# EAGLE library part NUCLEO_STM32L476RG (library ww_devkit)
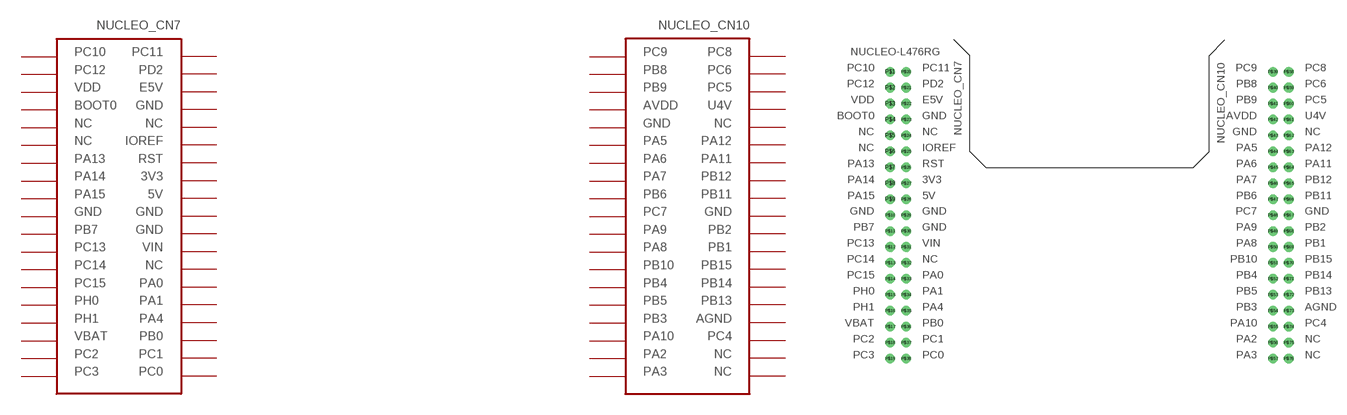
[diagram p0: symbol with the pads of NUCLEO; footprint NUCLEO]

Designator prefix -

## NUCLEO_STM32L476RG  [NUCLEO]
P$1  P$1
P$2  P$2
P$3  P$3
P$4  P$4
P$5  P$5
P$6  P$6
P$7  P$7
P$8  P$8
P$9  P$9
P$10  P$10
P$11  P$11
P$12  P$12
P$13  P$13
P$14  P$14
P$15  P$15
P$16  P$16
P$17  P$17
P$18  P$18
P$19  P$19
P$20  P$20
P$21  P$21
P$22  P$22
P$23  P$23
P$24  P$24
P$25  P$25
P$26  P$26
P$27  P$27
P$28  P$28
P$29  P$29
P$30  P$30
P$31  P$31
P$32  P$32
P$33  P$33
P$34  P$34
P$35  P$35
P$36  P$36
P$37  P$37
P$38  P$38
P$39  P$39
P$40  P$40
P$41  P$41
P$42  P$42
P$43  P$43
P$44  P$44
P$45  P$45
P$46  P$46
P$47  P$47
P$48  P$48
P$49  P$49
P$50  P$50
P$51  P$51
P$52  P$52
P$53  P$53
P$54  P$54
P$55  P$55
P$56  P$56
P$57  P$57
P$58  P$58
P$59  P$59
P$60  P$60
P$61  P$61
P$62  P$62
P$63  P$63
P$64  P$64
P$65  P$65
P$66  P$66
P$67  P$67
P$68  P$68
P$69  P$69
P$70  P$70
P$71  P$71
P$72  P$72
P$73  P$73
P$74  P$74
P$75  P$75
P$76  P$76

## Footprint NUCLEO (pad centres in mm)
drill 1.016: P$1 0,0; P$2 0,-2.54; P$3 0,-5.08; P$4 0,-7.62; P$5 0,-10.16; P$6 0,-12.7; P$7 0,-15.24; P$8 0,-17.78; P$9 0,-20.32; P$10 0,-22.86; P$11 0,-25.4; P$12 0,-27.94; P$13 0,-30.48; P$14 0,-33.02; P$15 0,-35.56; P$16 0,-38.1; P$17 0,-40.64; P$18 0,-43.18; P$19 0,-45.72; P$20 2.54,0; P$21 2.54,-2.54; P$22 2.54,-5.08; P$23 2.54,-7.62; P$24 2.54,-10.16; P$25 2.54,-12.7; P$26 2.54,-15.24; P$27 2.54,-17.78; P$28 2.54,-20.32; P$29 2.54,-22.86; P$30 2.54,-25.4; P$31 2.54,-27.94; P$32 2.54,-30.48; P$33 2.54,-33.02; P$34 2.54,-35.56; P$35 2.54,-38.1; P$36 2.54,-40.64; P$37 2.54,-43.18; P$38 2.54,-45.72; P$39 60.96,0; P$40 60.96,-2.54; P$41 60.96,-5.08; P$42 60.96,-7.62; P$43 60.96,-10.16; P$44 60.96,-12.7; P$45 60.96,-15.24; P$46 60.96,-17.78; P$47 60.96,-20.32; P$48 60.96,-22.86; P$49 60.96,-25.4; P$50 60.96,-27.94; P$51 60.96,-30.48; P$52 60.96,-33.02; P$53 60.96,-35.56; P$54 60.96,-38.1; P$55 60.96,-40.64; P$56 60.96,-43.18; P$57 60.96,-45.72; P$58 63.5,0; P$59 63.5,-2.54; P$60 63.5,-5.08; P$61 63.5,-7.62; P$62 63.5,-10.16; P$63 63.5,-12.7; P$64 63.5,-15.24; P$65 63.5,-17.78; P$66 63.5,-20.32; P$67 63.5,-22.86; P$68 63.5,-25.4; P$69 63.5,-27.94; P$70 63.5,-30.48; P$71 63.5,-33.02; P$72 63.5,-35.56; P$73 63.5,-38.1; P$74 63.5,-40.64; P$75 63.5,-43.18; P$76 63.5,-45.72